# EAGLE library part DF30FC-30DS-0.4V (library thanics-connector)
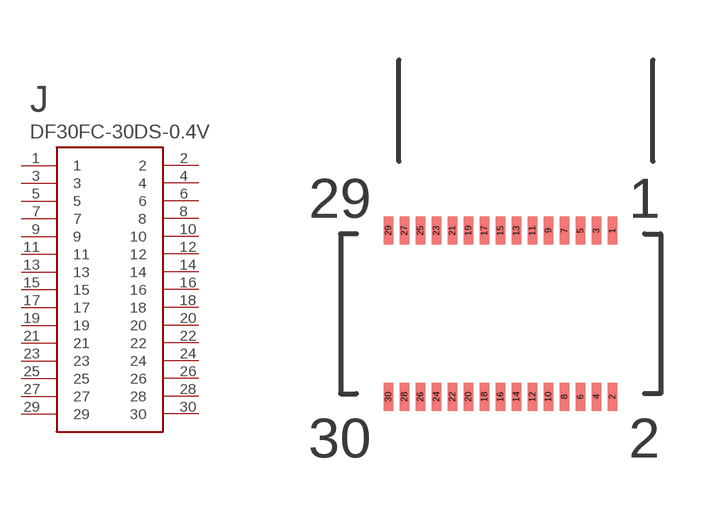
[diagram p1: symbol with the pads of DF30FC-30DS-0.4V; footprint DF30FC-30DS-0.4V]

Designator prefix J

## DF30FC-30DS-0.4V  [DF30FC-30DS-0.4V]
1  1
2  2
3  3
4  4
5  5
6  6
7  7
8  8
9  9
10  10
11  11
12  12
13  13
14  14
15  15
16  16
17  17
18  18
19  19
20  20
21  21
22  22
23  23
24  24
25  25
26  26
27  27
28  28
29  29
30  30

## Footprint DF30FC-30DS-0.4V (pad centres in mm)
smd 0.23 x 0.7: 1 2.8,2.08; 2 2.8,-2.08; 3 2.4,2.08; 4 2.4,-2.08; 5 2,2.08; 6 2,-2.08; 7 1.6,2.08; 8 1.6,-2.08; 9 1.2,2.08; 10 1.2,-2.08; 11 0.8,2.08; 12 0.8,-2.08; 13 0.4,2.08; 14 0.4,-2.08; 15 0,2.08; 16 0,-2.08; 17 -0.4,2.08; 18 -0.4,-2.08; 19 -0.8,2.08; 20 -0.8,-2.08; 21 -1.2,2.08; 22 -1.2,-2.08; 23 -1.6,2.08; 24 -1.6,-2.08; 25 -2,2.08; 26 -2,-2.08; 27 -2.4,2.08; 28 -2.4,-2.08; 29 -2.8,2.08; 30 -2.8,-2.08